# EAGLE library part ALPS-EC11 (library jason-test)
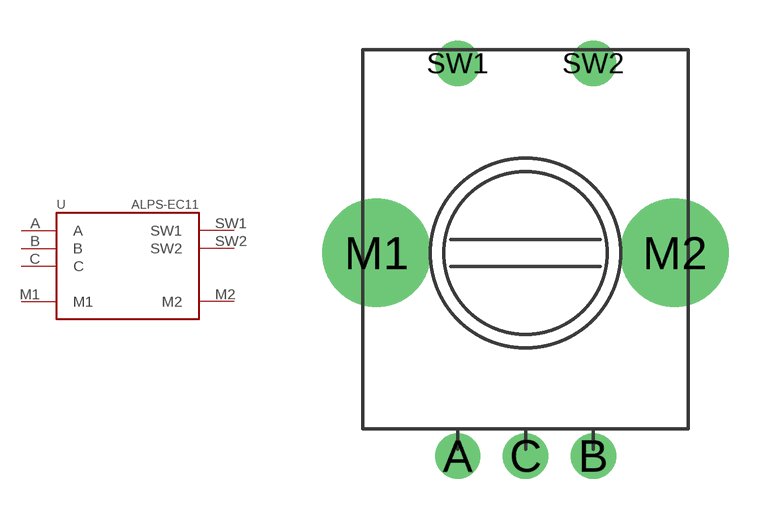
[diagram p43: symbol with the pads of ALPS-EC11; footprint ALPS-EC11]

Designator prefix -

## ALPS-EC11  [ALPS-EC11]
A  A
B  B
C  C
M1  M1
M2  M2
SW1  SW1
SW2  SW2

## Footprint ALPS-EC11 (pad centres in mm)
drill 1 pad 1.676 round: A -2.5,-7.5; B 2.5,-7.5; C 0,-7.5; SW1 -2.5,7; SW2 2.5,7
drill 2.6 pad 4 round: M1 -5.5,0; M2 5.5,0